# EAGLE library part PINHD_2X5_HALF (library lazurite)
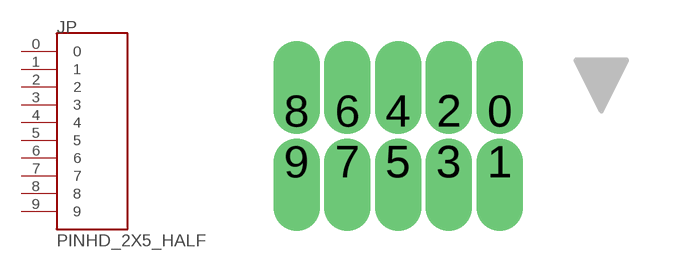
[diagram p1: symbol with the pads of PINHD_2X5_HALF; footprint PINHD_2X5_HALF]

Designator prefix JP

## PINHD_2X5_HALF  [PINHD_2X5_HALF]
0  0
1  1
2  2
3  3
4  4
5  5
6  6
7  7
8  8
9  9

## Footprint PINHD_2X5_HALF (pad centres in mm)
drill 0.65 pad 0.813 offset: 0 0,0; 1 0,-1.27; 2 -1.27,0; 3 -1.27,-1.27; 4 -2.54,0; 5 -2.54,-1.27; 6 -3.81,0; 7 -3.81,-1.27; 8 -5.08,0; 9 -5.08,-1.27